# EAGLE library part TRM-433-LT (library micromouse-timer)
LINX 433 MHz Tranceiver
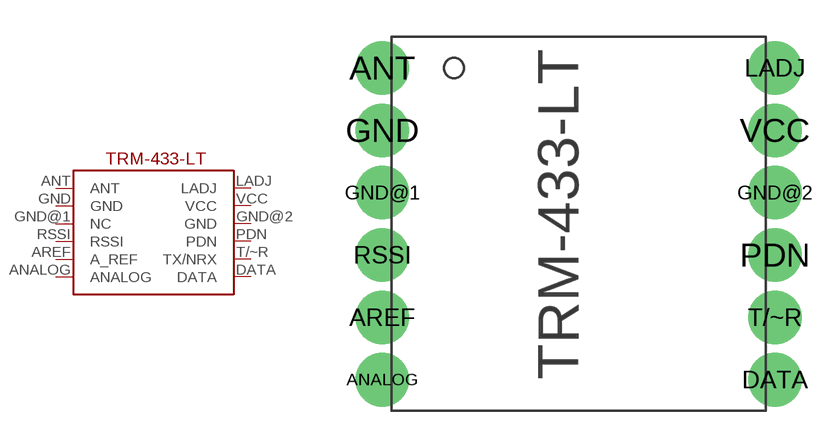
[diagram p2: symbol with the pads of LINX-TRM-433-LT; footprint LINX-TRM-433-LT]

Designator prefix M

## TRM-433-LT  [LINX-TRM-433-LT]
ANALOG  ANALOG
ANT  ANT  pas
AREF  A_REF
DATA  DATA
GND  GND  pwr
GND@1  NC  nc
GND@2  GND  pwr
LADJ  LADJ
PDN  PDN  in
RSSI  RSSI  out
T/~R  TX/NRX  in
VCC  VCC  pwr

## Footprint LINX-TRM-433-LT (pad centres in mm)
drill 1 pad 2.184: ANALOG -8,-5.08; ANT -8,7.62; AREF -8,-2.54; DATA 8,-5.08; GND -8,5.08; GND@1 -8,2.54; GND@2 8,2.54; LADJ 8,7.62; PDN 8,0; RSSI -8,0; T/~R 8,-2.54; VCC 8,5.08